# EAGLE library part 1729076 (library 1729076)
PCB terminal block, nominal current: 13.5 A, rated voltage (III/2): 400 V, nominal cross section: 1.5 mm?, Number of potentials: 8, Number of rows: 1, Number of positions per row: 8, product range: MKDSN 1,5, pitch: 5 mm, connection method: Screw connection with tension sleeve, mounting: Wave soldering, conductor/PCB connection direction: 0 ?, color: green, Pin layout: Linear pinning, Solder pin [P]: 3.5 mm, type of packaging: packed in cardboard Source: Datasheet <https://www.phoenixcontact.com/en-us/products/printed-circuit-board-terminal-mkdsn-15-8-1729076?type=pdf>
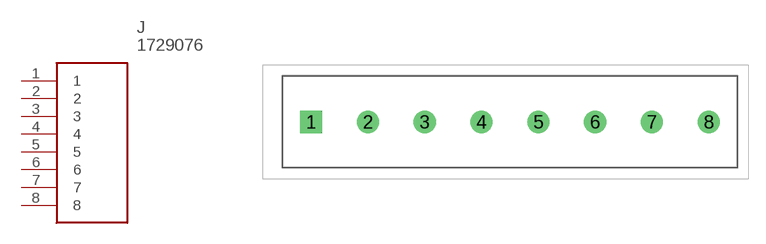
[diagram p0: symbol with the pads of 1729076; footprint 1729076]

Designator prefix J

## 1729076 (Description: PCB terminal block, nominal current: 13.5 A, rated voltage (III/2): 400 V, nominal cross section: 1.5 mm?, Number of potentials: 8, Number of rows: 1, Number of positions per row: 8, product range: MKDSN 1,5, pitch: 5 mm, connection method: Screw connection with tension sleeve, mounting: Wave soldering, conductor/PCB connection direction: 0 ?, color: green, Pin layout: Linear pinning, Solder pin [P]: 3.5 mm, type of packaging: packed in cardboard; Height: 10.15mm; Manufacturer_Name: Phoenix Contact; Manufacturer_Part_Number: 1729076; Mouser_Part_Number: 651-1729076; Mouser_Price-Stock: https://www.mouser.co.uk/ProductDetail/Phoenix-Contact/1729076?qs=zFpBqiaOpnzvURk10bgZxg%3D%3D)  [1729076]
1  1
2  2
3  3
4  4
5  5
6  6
7  7
8  8

## Footprint 1729076 (pad centres in mm)
1729076
drill 1.3 pad 1.95 square: 1 0,0
drill 1.3 pad 1.95: 2 5,0; 3 10,0; 4 15,0; 5 20,0; 6 25,0; 7 30,0; 8 35,0